# Altium schematic symbol library VOL617A-3X001T.SchLib: 1 symbol
Pins are listed as number, name and electrical type; pins without a type are passive.

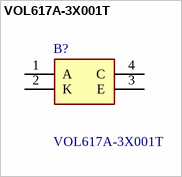
[diagram p0: symbol VOL617A-3X001T]

## VOL617A-3X001T
designator B?
Transistor Output Optocouplers Phototransistor Out CTR 100-200% IF=5M; Manufacturer_Name: Vishay; Geometry.Height: 2.3mm; Mouser Part Number: 78-VOL617A-3X001T; Mouser Price/Stock: https://www.mouser.co.uk/ProductDetail/Vishay-Semiconductors/VOL617A-3X001T?qs=s4XK1XdnRilgLzp851N9tg%3D%3D; Manufacturer_Part_Number: VOL617A-3X001T; Datasheet Link: https://www.vishay.com/docs/82424/vol617a.pdf
footprint SOP254P1015X230-4N
pins: 1 A, 2 K, 3 E, 4 C